# Altium footprint library RcMPPTLib.PcbLib: 59 footprints (part 3 of 4)
Each footprint in its own frame and in the unit in brackets; x right, y up, seen from the top. Pads: shape width x height; smd on the part's side, far side on the other; paste and mask are expansions set on the pad; w line width, h text height; cw(c..) or ccw(c..) is an arc to the next point about the centre after c.
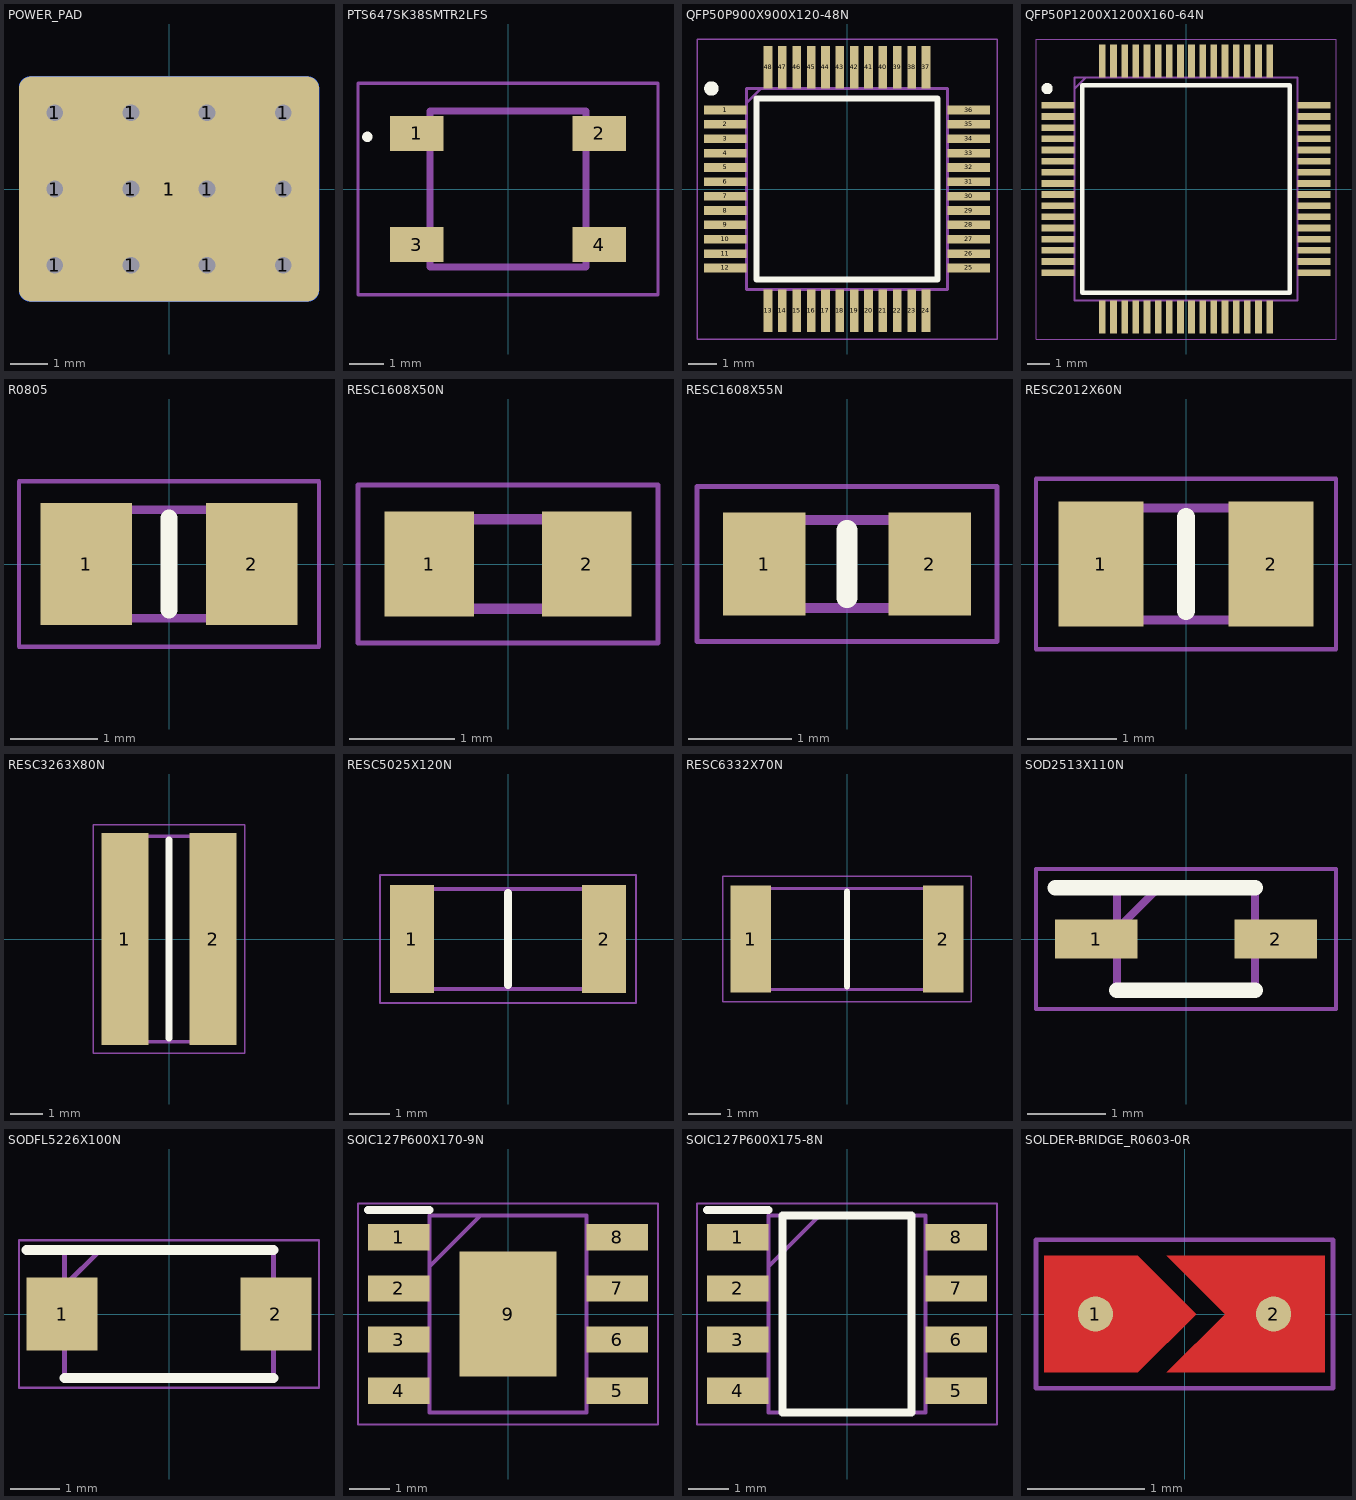
[diagram p2: the footprints below, top view; thin cyan lines are the x and y axes]

## POWER_PAD [mm]
pads (14):
  round 0.85 hole 0.45: 1(-3.048,-2.032) 1(-3.048,0) 1(-3.048,2.032) 1(-1.016,-2.032) 1(-1.016,0) 1(-1.016,2.032) 1(1.016,-2.032) 1(1.016,0) 1(1.016,2.032) 1(3.048,-2.032) 1(3.048,0) 1(3.048,2.032)
  rrect10% 8x6 smd: 1(0,0)
  rrect10% 8x6 smd far side: 1(0,0)

## PTS647SK38SMTR2LFS [mm]
pads (4):
  rect 1.55x1 smd: 1(-2.625,1.6) 2(2.625,1.6) 3(-2.625,-1.6) 4(2.625,-1.6)
Top Overlay:
  lines w0.2: -4.1,1.5 ccw(c-4.05,1.5) -4,1.5 ccw(c-4.05,1.5) -4.1,1.5
Mechanical 13:
  lines w0.2: -2.25,-2.25 -2.25,2.25 2.25,2.25 2.25,-2.25 -2.25,-2.25
Mechanical 15:
  lines w0.1: -4.318,-3.048 -4.318,3.048 4.318,3.048 4.318,-3.048 -4.318,-3.048
3D body "PTS_647_SK38_SMTR2_LFS.stp": height 3.9, standoff 0, extent -3.3,-2.25 3.3,2.25

## QFP50P900X900X120-48N [mm]
pads (48):
  rect 1.475x0.3 smd: 1(-4.238,2.75) 2(-4.238,2.25) 3(-4.238,1.75) 4(-4.238,1.25) 5(-4.238,0.75) 6(-4.238,0.25) 7(-4.238,-0.25) 8(-4.238,-0.75) 9(-4.238,-1.25) 10(-4.238,-1.75) 11(-4.238,-2.25) 12(-4.238,-2.75) 25(4.238,-2.75) 26(4.238,-2.25) 27(4.238,-1.75) 28(4.238,-1.25) 29(4.238,-0.75) 30(4.238,-0.25) 31(4.238,0.25) 32(4.238,0.75) 33(4.238,1.25) 34(4.238,1.75) 35(4.238,2.25) 36(4.238,2.75)
  rect 0.3x1.475 smd: 13(-2.75,-4.238) 14(-2.25,-4.238) 15(-1.75,-4.238) 16(-1.25,-4.238) 17(-0.75,-4.238) 18(-0.25,-4.238) 19(0.25,-4.238) 20(0.75,-4.238) 21(1.25,-4.238) 22(1.75,-4.238) 23(2.25,-4.238) 24(2.75,-4.238) 37(2.75,4.238) 38(2.25,4.238) 39(1.75,4.238) 40(1.25,4.238) 41(0.75,4.238) 42(0.25,4.238) 43(-0.25,4.238) 44(-0.75,4.238) 45(-1.25,4.238) 46(-1.75,4.238) 47(-2.25,4.238) 48(-2.75,4.238)
Top Overlay:
  circle w0.25: c-4.725,3.5 r0.125
  lines w0.2: -3.15,-3.15 -3.15,3.15 3.15,3.15 3.15,-3.15 -3.15,-3.15
Mechanical 13:
  lines w0.1: -3.5,3 -3,3.5 ; -3.5,-3.5 -3.5,3.5 3.5,3.5 3.5,-3.5 -3.5,-3.5
Mechanical 15:
  lines w0.05: -5.225,-5.225 -5.225,5.225 5.225,5.225 5.225,-5.225 -5.225,-5.225
3D body "BQ76952PFBR.stp": height 1.2, standoff 0, extent -4.5,-4.5 4.5,4.5

## QFP50P1200X1200X160-64N [mm]
pads (64):
  rect 1.475x0.3 smd: 1(-5.738,3.75) 2(-5.738,3.25) 3(-5.738,2.75) 4(-5.738,2.25) 5(-5.738,1.75) 6(-5.738,1.25) 7(-5.738,0.75) 8(-5.738,0.25) 9(-5.738,-0.25) 10(-5.738,-0.75) 11(-5.738,-1.25) 12(-5.738,-1.75) 13(-5.738,-2.25) 14(-5.738,-2.75) 15(-5.738,-3.25) 16(-5.738,-3.75) 33(5.738,-3.75) 34(5.738,-3.25) 35(5.738,-2.75) 36(5.738,-2.25) 37(5.738,-1.75) 38(5.738,-1.25) 39(5.738,-0.75) 40(5.738,-0.25) 41(5.738,0.25) 42(5.738,0.75) 43(5.738,1.25) 44(5.738,1.75) 45(5.738,2.25) 46(5.738,2.75) 47(5.738,3.25) 48(5.738,3.75)
  rect 0.3x1.475 smd: 17(-3.75,-5.738) 18(-3.25,-5.738) 19(-2.75,-5.738) 20(-2.25,-5.738) 21(-1.75,-5.738) 22(-1.25,-5.738) 23(-0.75,-5.738) 24(-0.25,-5.738) 25(0.25,-5.738) 26(0.75,-5.738) 27(1.25,-5.738) 28(1.75,-5.738) 29(2.25,-5.738) 30(2.75,-5.738) 31(3.25,-5.738) 32(3.75,-5.738) 49(3.75,5.738) 50(3.25,5.738) 51(2.75,5.738) 52(2.25,5.738) 53(1.75,5.738) 54(1.25,5.738) 55(0.75,5.738) 56(0.25,5.738) 57(-0.25,5.738) 58(-0.75,5.738) 59(-1.25,5.738) 60(-1.75,5.738) 61(-2.25,5.738) 62(-2.75,5.738) 63(-3.25,5.738) 64(-3.75,5.738)
Top Overlay:
  circle w0.25: c-6.225,4.5 r0.125
  lines w0.2: -4.65,-4.65 -4.65,4.65 4.65,4.65 4.65,-4.65 -4.65,-4.65
Mechanical 13:
  lines w0.1: -5,4.5 -4.5,5 ; -5,-5 -5,5 5,5 5,-5 -5,-5
Mechanical 15:
  lines w0.05: -6.725,-6.725 -6.725,6.725 6.725,6.725 6.725,-6.725 -6.725,-6.725
3D body "STM32G474RBT6.stp": height 1.6, standoff 0, extent -6,-6 6,6

## R0805 [mm]
pads (2):
  rect 1.05x1.4 smd: 1(-0.95,0) 2(0.95,0)
Top Overlay:
  lines w0.2: 0,-0.525 0,0.525
Mechanical 13:
  lines w0.1: -1,-0.625 -1,0.625 1,0.625 1,-0.625 -1,-0.625
Mechanical 15:
  lines w0.05: -1.725,-0.95 -1.725,0.95 1.725,0.95 1.725,-0.95 -1.725,-0.95
3D body "ERJ-6ENF4992V.stp": height 0.7, standoff 0, extent -1,-0.625 1,0.625

## RESC1608X50N [mm]
pads (2):
  rect 0.85x1 smd: 1(-0.75,0) 2(0.75,0)
Mechanical 13:
  lines w0.1: -0.788,-0.425 -0.788,0.425 0.788,0.425 0.788,-0.425 -0.788,-0.425
Mechanical 15:
  lines w0.05: -1.425,-0.75 -1.425,0.75 1.425,0.75 1.425,-0.75 -1.425,-0.75
3D body "CRCW060310R0FKEAHP.stp": height 0.5, standoff 0, extent -0.787,-0.425 0.787,0.425

## RESC1608X55N [mm]
pads (2):
  rect 0.8x1 smd: 1(-0.8,0) 2(0.8,0)
Top Overlay:
  lines w0.2: 0,-0.325 0,0.325
Mechanical 13:
  lines w0.1: -0.775,-0.425 -0.775,0.425 0.775,0.425 0.775,-0.425 -0.775,-0.425
Mechanical 15:
  lines w0.05: -1.45,-0.75 -1.45,0.75 1.45,0.75 1.45,-0.75 -1.45,-0.75
3D body "MCT06030C1001FP500.stp": height 0.45, standoff 0, extent -0.75,-0.425 0.8,0.425

## RESC2012X60N [mm]
pads (2):
  rect 0.95x1.4 smd: 1(-0.95,0) 2(0.95,0)
Top Overlay:
  lines w0.2: 0,-0.525 0,0.525
Mechanical 13:
  lines w0.1: -1,-0.625 1,-0.625 1,0.625 -1,0.625 -1,-0.625
Mechanical 15:
  lines w0.05: -1.675,-0.95 1.675,-0.95 1.675,0.95 -1.675,0.95 -1.675,-0.95
3D body "RT0805FRE0710KL.stp": height 0.6, standoff 0, extent -1,-0.625 1,0.625

## RESC3263X80N [mm]
pads (2):
  rect 1.45x6.5 smd: 1(-1.35,0) 2(1.35,0)
Top Overlay:
  lines w0.2: 0,-3.05 0,3.05
Mechanical 13:
  lines w0.1: -1.6,-3.15 -1.6,3.15 1.6,3.15 1.6,-3.15 -1.6,-3.15
Mechanical 15:
  lines w0.05: -2.325,-3.5 -2.325,3.5 2.325,3.5 2.325,-3.5 -2.325,-3.5
3D body "RCL12254K70FKEG.stp": height 0.8, standoff 0, extent -1.6,-3.15 1.6,3.15

## RESC5025X120N [mm]
pads (2):
  rect 1.1x2.7 smd: 1(-2.4,0) 2(2.4,0)
Top Overlay:
  lines w0.2: 0,-1.15 0,1.15
Mechanical 13:
  lines w0.1: -2.5,-1.25 -2.5,1.25 2.5,1.25 2.5,-1.25 -2.5,-1.25
Mechanical 15:
  lines w0.05: -3.2,-1.6 -3.2,1.6 3.2,1.6 3.2,-1.6 -3.2,-1.6
3D body "35025K1FT.stp": height 1.2, standoff 0, extent -2.5,-1.25 2.5,1.25

## RESC6332X70N [mm]
pads (2):
  rect 1.25x3.35 smd: 1(-3,0) 2(3,0)
Top Overlay:
  lines w0.2: 0,-1.475 0,1.475
Mechanical 13:
  lines w0.1: -3.15,-1.575 -3.15,1.575 3.15,1.575 3.15,-1.575 -3.15,-1.575
Mechanical 15:
  lines w0.05: -3.875,-1.95 -3.875,1.95 3.875,1.95 3.875,-1.95 -3.875,-1.95
3D body "CRCW25128K20JNEG.stp": height 0.7, standoff 0, extent -3.15,-1.575 3.15,1.575

## SOD2513X110N [mm]
pads (2):
  rect 1.05x0.5 smd: 1(-1.138,0) 2(1.138,0)
Top Overlay:
  lines w0.2: -1.662,0.65 0.875,0.65 ; -0.875,-0.65 0.875,-0.65
Mechanical 13:
  lines w0.1: -0.875,0.125 -0.35,0.65 ; -0.875,-0.65 0.875,-0.65 0.875,0.65 -0.875,0.65 -0.875,-0.65
Mechanical 15:
  lines w0.05: -1.905,-0.889 1.905,-0.889 1.905,0.889 -1.905,0.889 -1.905,-0.889
3D body "BAS3010A03WE6327HTSA1.stp": height 1.1, standoff 0, extent -1.25,-0.65 1.25,0.65

## SODFL5226X100N [mm]
pads (2):
  rect 1.45x1.49 smd: 1(-2.175,0) 2(2.175,0)
Top Overlay:
  lines w0.2: -2.9,1.3 2.125,1.3 ; -2.125,-1.3 2.125,-1.3
Mechanical 13:
  lines w0.1: -2.125,0.575 -1.4,1.3 ; -2.125,-1.3 2.125,-1.3 2.125,1.3 -2.125,1.3 -2.125,-1.3
Mechanical 15:
  lines w0.05: -3.05,-1.5 3.05,-1.5 3.05,1.5 -3.05,1.5 -3.05,-1.5
3D body "VSSAF3M10-M3_H.stp": height 1, standoff 0, extent -2.6,-1.3 2.6,1.3

## SOIC127P600X170-9N [mm]
pads (9):
  rect 1.525x0.65 smd: 1(-2.712,1.905) 2(-2.712,0.635) 3(-2.712,-0.635) 4(-2.712,-1.905) 5(2.712,-1.905) 6(2.712,-0.635) 7(2.712,0.635) 8(2.712,1.905)
  rect 2.4x3.1 smd: 9(0,0)
Top Overlay:
  lines w0.2: -3.475,2.58 -1.95,2.58
Mechanical 13:
  lines w0.1: -1.95,1.18 -0.68,2.45 ; -1.95,-2.45 1.95,-2.45 1.95,2.45 -1.95,2.45 -1.95,-2.45
Mechanical 15:
  lines w0.05: -3.725,-2.75 3.725,-2.75 3.725,2.75 -3.725,2.75 -3.725,-2.75
3D body "UCC27212AQDDARQ1.stp": height 1.7, standoff 0, extent -3,-2.45 3,2.45

## SOIC127P600X175-8N [mm]
pads (8):
  rect 1.525x0.65 smd: 1(-2.712,1.905) 2(-2.712,0.635) 3(-2.712,-0.635) 4(-2.712,-1.905) 5(2.712,-1.905) 6(2.712,-0.635) 7(2.712,0.635) 8(2.712,1.905)
Top Overlay:
  lines w0.2: -3.475,2.58 -1.95,2.58 ; -1.6,-2.45 -1.6,2.45 1.6,2.45 1.6,-2.45 -1.6,-2.45
Mechanical 13:
  lines w0.1: -1.95,1.18 -0.68,2.45 ; -1.95,-2.45 -1.95,2.45 1.95,2.45 1.95,-2.45 -1.95,-2.45
Mechanical 15:
  lines w0.05: -3.725,-2.75 -3.725,2.75 3.725,2.75 3.725,-2.75 -3.725,-2.75
3D body "LM393ADT.stp": height 1.75, standoff 0, extent -3,-2.45 3,2.45

## SOLDER-BRIDGE_R0603-0R [mm]
height 0.5
pads (2):
  round 0.3 smd: 1(-0.762,0) 2(0.762,0)
Top Layer:
  region: -0.15,-0.5 0.35,0 -0.15,0.5 1.2,0.5 1.2,-0.5
  region: -1.2,0.5 -1.2,-0.5 -0.4,-0.5 0.1,0 -0.4,0.5
Top Solder:
  region: -1.27,-0.55 -0.398,-0.55 0.152,0 -0.398,0.55 -1.27,0.55
  region: 0.305,0 -0.245,-0.55 1.295,-0.55 1.295,0.55 -0.245,0.55
Mechanical 15:
  lines w0.04: -1.27,-0.635 -1.27,0.635 1.27,0.635 1.27,-0.635 -1.27,-0.635
3D body: height 0.5, standoff 0, extent -0.905,-0.505 0.905,0.505